# Altium schematic symbol library CN_1P-4F-SB5.SchLib: 1 symbol
Pins are listed as number, name and electrical type; pins without a type are passive.

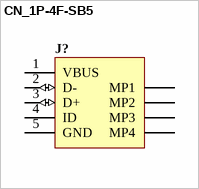
[diagram p0: symbol CN_1P-4F-SB5]

## CN_1P-4F-SB5
designator J?
pins: 1 VBUS (power), 2 D- (io), 3 D+ (io), 4 ID, 5 GND (power), MP1, MP2, MP3, MP4